# Altium footprint library PcbLib.PcbLib: 15 footprints
Each footprint in its own frame and in the unit in brackets; x right, y up, seen from the top. Pads: shape width x height; smd on the part's side, far side on the other; paste and mask are expansions set on the pad; w line width, h text height; cw(c..) or ccw(c..) is an arc to the next point about the centre after c.
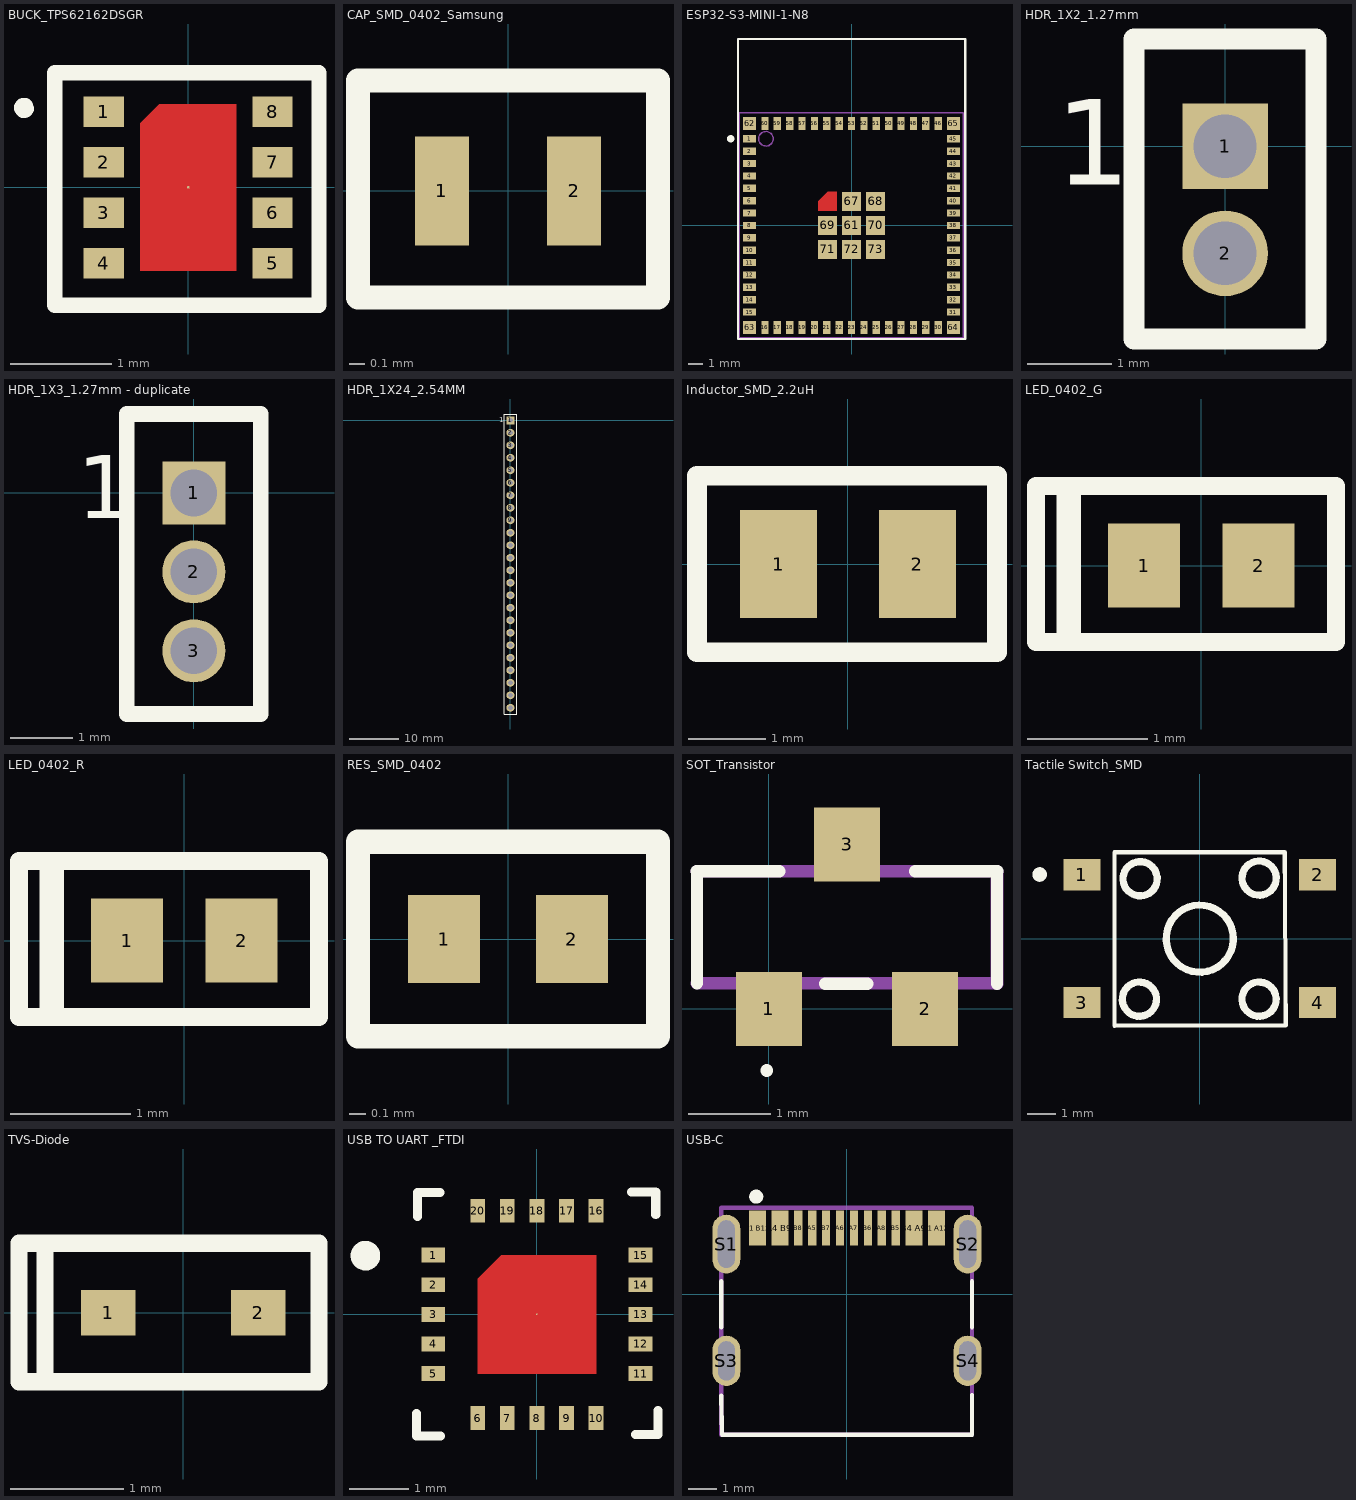
[diagram p0: the footprints below, top view; thin cyan lines are the x and y axes]

## BUCK_TPS62162DSGR [mm] "PSON, 8-Leads, Body 2.00x2.00mm, Pitch 0.50mm, Thermal Pad 1.60x0.82mm, IPC Medium Density"
height 0.75
pads (9):
  rect 0.4x0.3 smd mask-2539.97: 1(-0.835,0.75) 2(-0.835,0.25) 3(-0.835,-0.25) 4(-0.835,-0.75) 5(0.835,-0.75) 6(0.835,-0.25) 7(0.835,0.25) 8(0.835,0.75)
  round 0.025 smd mask-2539.97: 4(0,0)
Top Layer:
  region: 0.475,0.825 0.475,-0.825 -0.475,-0.825 -0.475,0.635 -0.285,0.825
Top Overlay:
  lines w0.1: -1.586,0.817 ccw(c-1.626,0.787) -1.576,0.787
  lines w0.152: -1.321,-1.168 1.295,-1.168 1.295,1.137 -1.321,1.137 -1.321,-1.168
Top Solder:
  region: -0.41,-0.8 -0.41,0.39 0,0.8 0.41,0.8 0.41,-0.8
  region: 0.635,-0.9 0.635,-0.6 1.035,-0.6 1.035,-0.9
  region: 0.635,-0.4 0.635,-0.1 1.035,-0.1 1.035,-0.4
  region: 0.635,0.1 0.635,0.4 1.035,0.4 1.035,0.1
  region: 0.635,0.6 0.635,0.9 1.035,0.9 1.035,0.6
  region: -1.035,-0.9 -1.035,-0.6 -0.635,-0.6 -0.635,-0.9
  region: -1.035,-0.4 -1.035,-0.1 -0.635,-0.1 -0.635,-0.4
  region: -1.035,0.1 -1.035,0.4 -0.635,0.4 -0.635,0.1
  region: -1.035,0.6 -1.035,0.9 -0.635,0.9 -0.635,0.6
3D body "BUCK_TPS62162DSGR.STEP": height 0.81, standoff 0.01, extent -1.009,-1 0.991,1

## CAP_SMD_0402_Samsung [mm]
pads (2):
  rect 0.35x0.7 smd: 1(-0.425,0) 2(0.425,0)
Top Overlay:
  lines w0.152: -0.965,-0.686 0.965,-0.686 0.965,0.711 -0.965,0.711 -0.965,-0.686
3D body "CL05A105KL5NRNC.step": height 0.51, standoff 0.01, extent -0.5,-0.279 0.5,0.271

## ESP32-S3-MINI-1-N8 [mm]
height 0.8
pads (73):
  rect 0.9x0.5 smd: 1(-7,5.95) 2(-7,5.1) 3(-7,4.25) 4(-7,3.4) 5(-7,2.55) 6(-7,1.7) 7(-7,0.85) 8(-7,0) 9(-7,-0.85) 10(-7,-1.7) 11(-7,-2.55) 12(-7,-3.4) 13(-7,-4.25) 14(-7,-5.1) 15(-7,-5.95) 31(7,-5.95) 32(7,-5.1) 33(7,-4.25) 34(7,-3.4) 35(7,-2.55) 36(7,-1.7) 37(7,-0.85) 38(7,0) 39(7,0.85) 40(7,1.7) 41(7,2.55) 42(7,3.4) 43(7,4.25) 44(7,5.1) 45(7,5.95)
  rect 0.5x0.9 smd: 16(-5.95,-7) 17(-5.1,-7) 18(-4.25,-7) 19(-3.4,-7) 20(-2.55,-7) 21(-1.7,-7) 22(-0.85,-7) 23(0,-7) 24(0.85,-7) 25(1.7,-7) 26(2.55,-7) 27(3.4,-7) 28(4.25,-7) 29(5.1,-7) 30(5.95,-7) 46(5.95,7) 47(5.1,7) 48(4.25,7) 49(3.4,7) 50(2.55,7) 51(1.7,7) 52(0.85,7) 53(0,7) 54(-0.85,7) 55(-1.7,7) 56(-2.55,7) 57(-3.4,7) 58(-4.25,7) 59(-5.1,7) 60(-5.95,7)
  rect 1.3x1.3 smd: 61(0,0) 67(0,1.65) 68(1.65,1.65) 69(-1.65,0) 70(1.65,0) 71(-1.65,-1.65) 72(0,-1.65) 73(1.65,-1.65)
  rect 0.9x0.9 smd: 62(-7,7) 63(-7,-7) 64(7,-7) 65(7,7)
  round 0.025 smd: 66(-1.65,1.65)
Top Layer:
  region: -1,1 -2.3,1 -2.3,1.65 -1.65,2.3 -1,2.3
Top Overlay:
  circle w0.25: c-8.3,5.95 r0.125
  lines w0.152: -7.798,-7.8 7.8,-7.8 7.8,12.8 -7.798,12.8 -7.798,-7.8
Top Assembly:
  circle w0.1: c-5.875,5.95 r0.5
  lines w0.1: -7.7,-7.725 7.675,-7.725 7.675,7.75 -7.7,7.75 -7.7,-7.725
3D body "ESP32-S3-MINI-1-N8--3DModel-STEP-1.STEP": height 2.56, standoff 0.01, extent -7.7,-7.725 7.7,12.775

## HDR_1X2_1.27mm [mil]
pads (2):
  rect 40x40 hole 29.53: 1(0,0)
  round 40 hole 29.53: 2(0,-50)
Top Overlay:
  lines w9.84: -42.5,-90 -42.5,50 42.5,50 42.5,-90 -42.5,-90
  text "1" at -79,-18 h40
3D body "1x2 Male Pin Header 1.27P.stp": height 154.5, standoff -89.5, extent -42.5,-75 42.5,25

## HDR_1X3_1.27mm - duplicate [mil]
pads (3):
  rect 40x40 hole 29.53: 1(0,0)
  round 40 hole 29.53: 2(0,-50) 3(0,-100)
Top Overlay:
  lines w9.84: -42.5,-140 42.5,-140 42.5,50 -42.5,50 -42.5,-140
  text "1" at -74,-16 h40
3D body "1x3 Male Pin Header 1.27P.stp": height 154.5, standoff -89.5, extent -42.5,-125 42.5,25

## HDR_1X24_2.54MM [mil]
pads (24):
  rect 64x64 hole 39.37: 1(0,0)
  round 64 hole 39.37: 2(0,-100) 3(0,-200) 4(0,-300) 5(0,-400) 6(0,-500) 7(0,-600) 8(0,-700) 9(0,-800) 10(0,-900) 11(0,-1000) 12(0,-1100) 13(0,-1200) 14(0,-1300) 15(0,-1400) 16(0,-1500) 17(0,-1600) 18(0,-1700) 19(0,-1800) 20(0,-1900) 21(0,-2000) 22(0,-2100) 23(0,-2200) 24(0,-2300)
Top Overlay:
  lines w9.84: -50,-2350 50,-2350
  lines w10: -50,-2350 -50,50 50,50 50,-2350
  text "1" at -89,-15 h40
3D body "1x24 Male Pin Header.STEP": height 415.46, standoff -117.61, extent -49.99,-2350.09 48.43,50.1

## Inductor_SMD_2.2uH [mm]
pads (2):
  rect 1x1.4 smd: 1(-0.9,0) 2(0.9,0)
Top Overlay:
  lines w0.254: -1.956,-1.143 1.93,-1.143 1.93,1.143 -1.956,1.143 -1.956,-1.143
3D body "MLP2012H2R2MT0S1.STEP": height 1.01, standoff 0.01, extent -1.011,-0.625 0.989,0.625

## LED_0402_G [mm]
pads (2):
  rect 0.6x0.7 smd: 1(-0.475,0) 2(0.475,0)
Top Overlay:
  rectangle: -1.2,-0.6 -1,0.645
  lines w0.152: -1.372,-0.635 1.118,-0.635 1.118,-0.311 1.118,0.337 1.118,0.66 -1.372,0.66 -1.372,0.337 -1.372,-0.311 -1.372,-0.635
3D body "Green_LED_0402.STEP": height 0.21, standoff 0.01, extent -0.5,-0.3 0.5,0.3

## LED_0402_R [mm]
pads (2):
  rect 0.6x0.7 smd: 1(-0.475,0) 2(0.475,0)
Top Overlay:
  rectangle: -1.2,-0.6 -1,0.645
  lines w0.152: -1.372,-0.635 -1.372,-0.311 -1.372,0.337 -1.372,0.66 1.118,0.66 1.118,0.337 1.118,-0.311 1.118,-0.635 -1.372,-0.635
3D body "RED_LED_0402.STEP": height 0.21, standoff 0.01, extent -0.5,-0.3 0.5,0.3

## RES_SMD_0402 [mm]
pads (2):
  rect 0.45x0.55 smd: 1(-0.4,0) 2(0.4,0)
Top Overlay:
  lines w0.152: -0.94,-0.61 0.94,-0.61 0.94,0.61 -0.94,0.61 -0.94,-0.61
3D body "AC0402FR-07100KL.step": height 0.38, standoff 0.01, extent -0.5,-0.25 0.5,0.25

## SOT_Transistor [mm]
height 1
pads (3):
  rect 0.8x0.9 smd: 1(0,0) 2(1.9,0) 3(0.95,2)
Top Overlay:
  lines w0.152: -0.875,0.312 -0.875,0.666 -0.875,1.334 -0.875,1.669 ; -0.875,1.675 0.127,1.675 ; 0.686,0.305 1.194,0.305 ; 1.778,1.675 2.775,1.675 ; 2.775,0.305 2.775,0.663 2.775,1.65 ; -0.025,-0.75 -0.025,-0.75
Top Assembly:
  lines w0.152: -0.875,0.312 2.775,0.312 2.775,1.65 ; -0.875,1.675 2.775,1.675 2.775,0.305
  text ".Designator" at 0.787,0.823 h1
3D body "MMSS8050-H-TP.STEP": height 1.26, standoff 0.01, extent -0.535,-0.185 2.385,2.185

## Tactile Switch_SMD [mm]
pads (4):
  rect 1.3x1.1 smd: 1(-4.15,2.25) 2(4.15,2.25) 3(-4.15,-2.25) 4(4.15,-2.25)
Top Overlay:
  lines w0.152: 3.025,-3.049 -3,-3.073 -3,-1.549 -3,1.499 -3,3.048 3,3.048 3.006,1.524 3.019,-1.524 3.025,-3.048
  lines w0.254: -5.512,2.235 cw(c-5.639,2.261) -5.509,2.261 ; -1.526,-2.08 ccw(c-2.126,-2.132) -1.524,-2.108 ; -1.5,2.162 ccw(c-2.1,2.11) -1.499,2.134 ; 1.18,-0.077 cw(c0,0) 1.183,0 ; 2.691,-2.08 ccw(c2.091,-2.132) 2.692,-2.108 ; 2.692,2.184 ccw(c2.093,2.132) 2.694,2.156
3D body "Switch.STEP": height 4.31, standoff 0.01, extent -4.475,-3.051 4.525,2.949

## TVS-Diode [mm] "Bidirectional 5V SOD-523 ESD and Surge Protection (TVS/ESD) ROHS"
pads (2):
  rect 0.48x0.4 smd: 1(-0.66,0) 2(0.66,0)
Top Overlay:
  rectangle: -1.295,-0.635 -1.143,0.61
  lines w0.152: -1.448,-0.61 1.194,-0.61 1.194,0.61 -1.448,0.61 -1.448,-0.61
3D body "LESD5D5.0CT1G--3DModel-STEP-510211.STEP": height 0.71, standoff 0.01, extent -0.8,-0.4 0.8,0.4

## USB TO UART _FTDI [mm]
height 0.8
pads (21):
  rect 0.4x0.25 smd: 1(-1.75,1) 2(-1.75,0.5) 3(-1.75,0) 4(-1.75,-0.5) 5(-1.75,-1) 11(1.75,-1) 12(1.75,-0.5) 13(1.75,0) 14(1.75,0.5) 15(1.75,1)
  rect 0.25x0.4 smd: 6(-1,-1.75) 7(-0.5,-1.75) 8(0,-1.75) 9(0.5,-1.75) 10(1,-1.75) 16(1,1.75) 17(0.5,1.75) 18(0,1.75) 19(-0.5,1.75) 20(-1,1.75)
  round 0.025 smd: 21(0,0)
Top Layer:
  region: 1,-1 -1,-1 -1,0.6 -0.6,1 1,1
Top Overlay:
  circle w0.25: c-2.896,0.991 r0.125
  lines w0.152: -2.032,-1.676 -2.032,-2.057 -1.626,-2.057 ; -2.019,1.651 -2.019,2.057 -1.638,2.057 ; 1.6,2.07 2.007,2.07 2.007,1.689 ; 1.664,-2.032 2.045,-2.032 2.045,-1.626
3D body "IC_FTDI_FT231XQ-R_eec.STEP": height 0.25, standoff 0, extent -2.935,-2.935 2.935,2.935

## USB-C [mm]
pads (16):
  rect 0.6x1.25 smd mask-2539.97: "A1 B12"(-3.2,2.378) "A4 B9"(-2.4,2.378) "B1 A12"(3.2,2.378) "B4 A9"(2.4,2.378)
  rect 0.3x1.25 smd mask-2539.97: A5(-1.25,2.378) A6(-0.25,2.378) A7(0.25,2.378) A8(1.25,2.378) B5(1.75,2.378) B6(0.75,2.378) B7(-0.75,2.378) B8(-1.75,2.378)
  oval 1x2.1 hole 0.6 slot 1.7 at 90 deg: S1(-4.32,1.803) S2(4.32,1.803)
  oval 1x1.8 hole 0.6 slot 1.4 at 90 deg: S3(-4.318,-2.377) S4(4.32,-2.377)
Top Overlay:
  circle w0.254: c-3.25,3.5 r0.125
  lines w0.152: -4.502,-3.628 -4.475,-5.027 4.475,-5.027 4.475,-3.602 ; -4.5,-1.177 -4.5,0.473 ; 4.475,-1.177 4.475,0.473
Top Solder:
  region: 0.9,1.803 0.6,1.803 0.6,2.953 0.9,2.953
  region: 0.4,1.803 0.1,1.803 0.1,2.953 0.4,2.953
  region: -0.1,1.803 -0.4,1.803 -0.4,2.953 -0.1,2.953
  region: -0.6,1.803 -0.9,1.803 -0.9,2.953 -0.6,2.953
  region: -1.6,1.803 -1.9,1.803 -1.9,2.953 -1.6,2.953
  region: -2.1,1.803 -2.7,1.803 -2.7,2.953 -2.1,2.953
  region: -2.9,1.803 -3.5,1.803 -3.5,2.953 -2.9,2.953
  region: 2.7,1.803 2.1,1.803 2.1,2.953 2.7,2.953
  region: -1.1,1.803 -1.4,1.803 -1.4,2.953 -1.1,2.953
  region: 1.4,1.803 1.1,1.803 1.1,2.953 1.4,2.953
  region: 1.9,1.803 1.6,1.803 1.6,2.953 1.9,2.953
  region: 3.5,1.803 2.9,1.803 2.9,2.953 3.5,2.953
Top Assembly:
  lines w0.152: -4.5,3.1 -4.5,-5.027 4.475,-5.027 4.475,3.1 2.237,3.1 -2.238,3.1 -4.475,3.1
  text ".Designator" at -0.025,-0.037 h1
3D body "HRO_TYPE-C-31-M-12.step": height 3.22, standoff -0.98, extent -4.48,-5.029 4.47,2.871